# Altium integrated library Altera FLEX 8000.IntLib: 65 symbols (part 5 of 5)
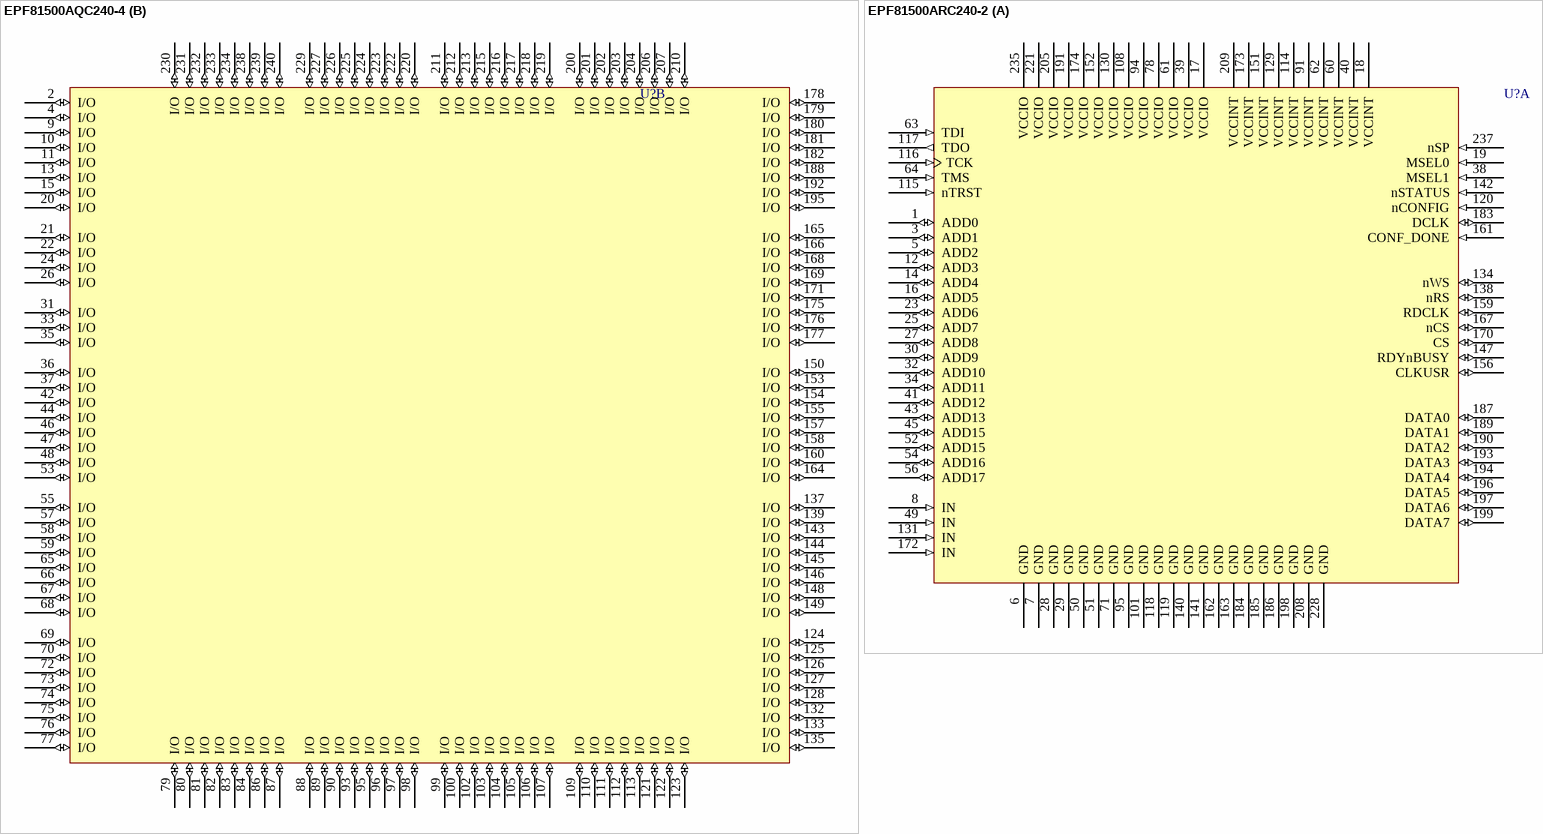
[diagram p43: symbols EPF81500AQC240-4 to EPF81500ARC240-2]

## EPF81500AQC240-4
designator U?
FLEX EPF81500A 5.0V PLD, 181 User IO Pins, 240-Pin PQFP, Speed Grade 4, Commercial Grade; Published: 24-Nov-2000; LatestRevisionDate: 13-Apr-2006; LatestRevisionNote: IPC-7351 Footprint Added.; DatasheetVersion: ver11.1, Jan-2003; PackageVersion: ver14.1, Oct-2005; PackageReference: PQFP240; Publisher: Altium Limited; PackageDescription: 240-Pin Plastic Quad Flat Pack (PQFP240); Code_JEDEC: MS-029-GA; ComponentLink1Description: Manufacturer Link; ComponentLink1URL: http://www.altera.com/products/devices/flex8k/f8k-index.html; ComponentLink2Description: Datasheet; ComponentLink2URL: http://www.altera.com/literature/ds/dsf8k.pdf
footprint PQFP240_N (Shrink QFP, 240-Leads, Body 32x32mm, Pitch 0.5mm, IPC Medium Density)
footprint PQFP240_L (Shrink QFP, 240-Leads, Body 32x32mm, Pitch 0.5mm, IPC High Density)
footprint PQFP240_M (Shrink QFP, 240-Leads, Body 32x32mm, Pitch 0.5mm, IPC Low Density)
3D model EPF81500A-PQFP240 (240-Pin Plastic Quad Flat Pack (PQFP240))
part A pins: 1 ADD0 (io), 3 ADD1 (io), 5 ADD2 (io), 6 GND (power), 7 GND (power), 8 IN (in), 12 ADD3 (io), 14 ADD4 (io), 16 ADD5 (io), 17 VCCIO (power), 18 VCCINT (power), 19 MSEL0 (in), 23 ADD6 (io), 25 ADD7 (io), 27 ADD8 (io), 28 GND (power), 29 GND (power), 30 ADD9 (io), 32 ADD10 (io), 34 ADD11 (io), 38 MSEL1 (in), 39 VCCIO (power), 40 VCCINT (power), 41 ADD12 (io), 43 ADD13 (io), 45 ADD14 (io), 49 IN (in), 50 GND (power), 51 GND (power), 52 ADD15 (io), 54 ADD16 (io), 56 ADD17 (io), 60 VCCINT (power), 61 VCCIO (power), 62 VCCINT (power), 63 TDI (in), 64 TMS (in), 71 GND (power), 78 VCCIO (power), 85 GND (power), 91 VCCINT (power), 92 GND (power), 94 VCCIO (power), 101 GND (power), 108 VCCIO (power), 114 VCCINT (power), 115 TRST (in), 116 TCK (in), 117 TDO (out), 118 GND (power), 119 GND (power), 120 nCONFIG (in), 129 VCCINT (power), 130 VCCIO (power), 131 IN (in), 134 nWS (io), 136 SDOUT (io), 138 nRS (io), 140 GND (power), 141 GND (power), 142 nSTATUS (in), 147 RDYnBUSY (io), 151 VCCINT (power), 152 VCCIO (power), 156 CLKUSR (io), 159 RDCLK (io), 161 CONF_DONE (in), 162 GND (power), 163 GND (power), 167 nCS (io), 170 CS (io), 172 IN (in), 173 VCCINT (power), 174 VCCIO (power), 183 DCLK (in), 184 GND (power), 185 GND (power), 186 GND (power), 187 DATA0 (io), 189 DATA1 (io), 190 DATA2 (io), 191 VCCIO (power), 193 DATA3 (io), 194 DATA4 (io), 196 DATA5 (io), 197 DATA6 (io), 198 GND (power), 199 DATA7 (io), 205 VCCIO (power), 208 GND (power), 209 VCCINT (power), 214 GND (power), 221 VCCIO (power), 228 GND (power), 235 VCCIO (power), 236 VCCINT (power), 237 nSP (in)
part B pins: 2 I/O (io), 4 I/O (io), 9 I/O (io), 10 I/O (io), 11 I/O (io), 13 I/O (io), 15 I/O (io), 20 I/O (io), 21 I/O (io), 22 I/O (io), 24 I/O (io), 26 I/O (io), 31 I/O (io), 33 I/O (io), 35 I/O (io), 36 I/O (io), 37 I/O (io), 42 I/O (io), 44 I/O (io), 46 I/O (io), 47 I/O (io), 48 I/O (io), 53 I/O (io), 55 I/O (io), 57 I/O (io), 58 I/O (io), 59 I/O (io), 65 I/O (io), 66 I/O (io), 67 I/O (io), 68 I/O (io), 69 I/O (io), 70 I/O (io), 72 I/O (io), 73 I/O (io), 74 I/O (io), 75 I/O (io), 76 I/O (io), 77 I/O (io), 79 I/O (io), 80 I/O (io), 81 I/O (io), 82 I/O (io), 83 I/O (io), 84 I/O (io), 86 I/O (io), 87 I/O (io), 88 I/O (io), 89 I/O (io), 90 I/O (io), 93 I/O (io), 95 I/O (io), 96 I/O (io), 97 I/O (io), 98 I/O (io), 99 I/O (io), 100 I/O (io), 102 I/O (io), 103 I/O (io), 104 I/O (io), 105 I/O (io), 106 I/O (io), 107 I/O (io), 109 I/O (io), 110 I/O (io), 111 I/O (io), 112 I/O (io), 113 I/O (io), 121 I/O (io), 122 I/O (io), 123 I/O (io), 124 I/O (io), 125 I/O (io), 126 I/O (io), 127 I/O (io), 128 I/O (io), 132 I/O (io), 133 I/O (io), 135 I/O (io), 137 I/O (io), 139 I/O (io), 143 I/O (io), 144 I/O (io), 145 I/O (io), 146 I/O (io), 148 I/O (io), 149 I/O (io), 150 I/O (io), 153 I/O (io), 154 I/O (io), 155 I/O (io), 157 I/O (io), 158 I/O (io), 160 I/O (io), 164 I/O (io), 165 I/O (io), 166 I/O (io), 168 I/O (io), 169 I/O (io), 171 I/O (io), 175 I/O (io), 176 I/O (io), 177 I/O (io), 178 I/O (io), 179 I/O (io), 180 I/O (io), 181 I/O (io), 182 I/O (io), 188 I/O (io), 192 I/O (io), 195 I/O (io), 200 I/O (io), 201 I/O (io), 202 I/O (io), 203 I/O (io), 204 I/O (io), 206 I/O (io), 207 I/O (io), 210 I/O (io), 211 I/O (io), 212 I/O (io), 213 I/O (io), 215 I/O (io), 216 I/O (io), 217 I/O (io), 218 I/O (io), 219 I/O (io), 220 I/O (io), 222 I/O (io), 223 I/O (io), 224 I/O (io), 225 I/O (io), 226 I/O (io), 227 I/O (io), 229 I/O (io), 230 I/O (io), 231 I/O (io), 232 I/O (io), 233 I/O (io), 234 I/O (io), 238 I/O (io), 239 I/O (io), 240 I/O (io)

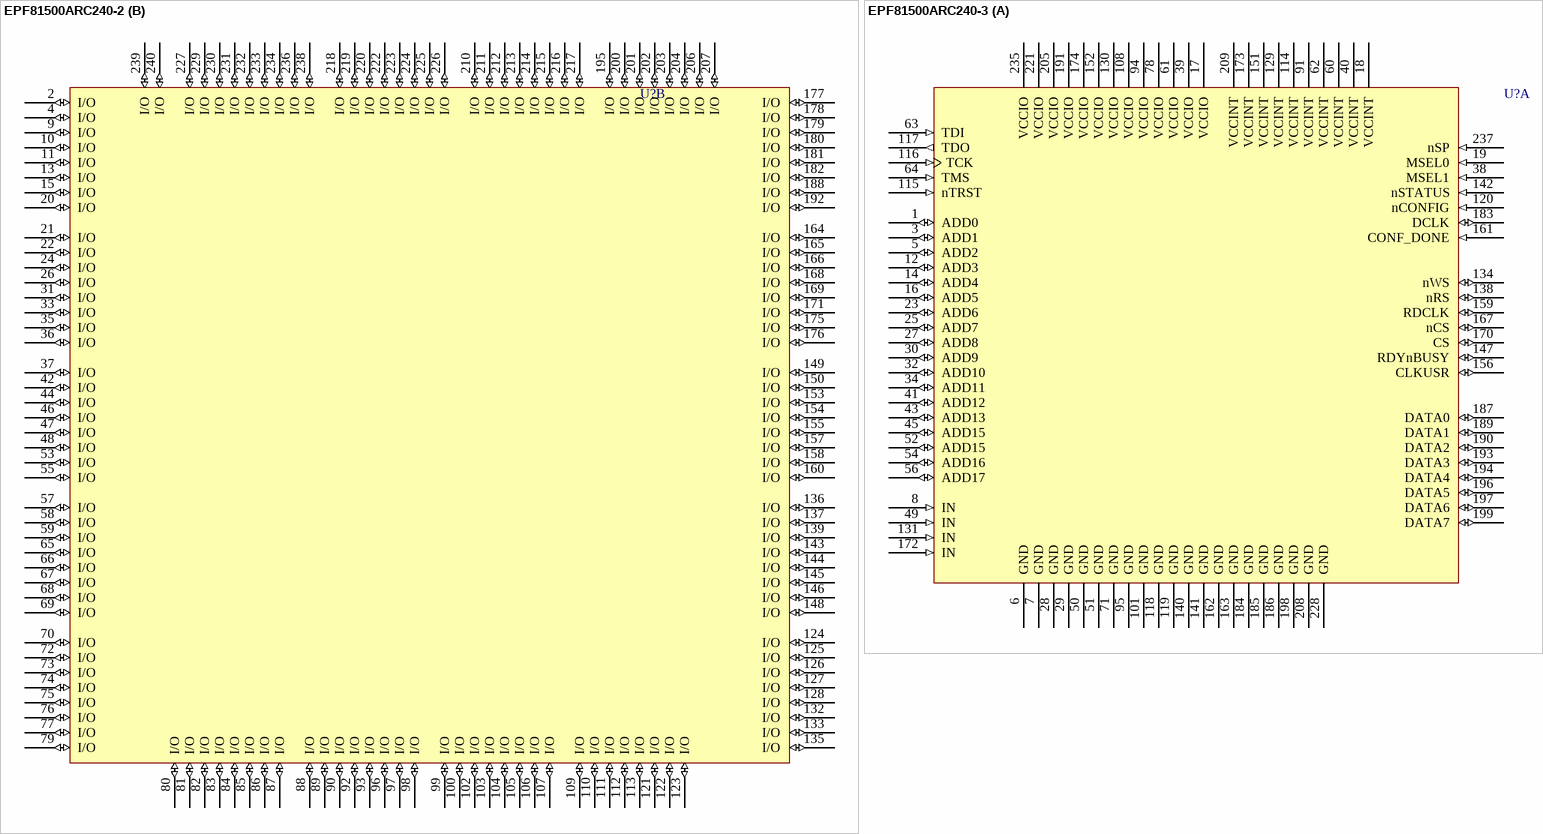
[diagram p31: symbols EPF81500ARC240-2 to EPF81500ARC240-3]

## EPF81500ARC240-2
designator U?
FLEX EPF81500A 5.0V PLD, 181 User IO Pins, 240-Pin RQFP, Speed Grade 2, Commercial Grade; Published: 24-Nov-2000; LatestRevisionDate: 13-Apr-2006; LatestRevisionNote: IPC-7351 Footprint Added.; DatasheetVersion: ver11.1, Jan-2003; PackageVersion: ver14.1, Oct-2005; PackageReference: RQFP240; Publisher: Altium Limited; PackageDescription: 240-Pin Power Quad Flat Pack (RQFP240); Code_JEDEC: MS-029-GA; ComponentLink1Description: Manufacturer Link; ComponentLink1URL: http://www.altera.com/products/devices/flex8k/f8k-index.html
footprint RQFP240_N (Shrink QFP, 240-Leads, Body 32x32mm, Pitch 0.5mm, IPC Medium Density)
footprint RQFP240_L (Shrink QFP, 240-Leads, Body 32x32mm, Pitch 0.5mm, IPC High Density)
footprint RQFP240_M (Shrink QFP, 240-Leads, Body 32x32mm, Pitch 0.5mm, IPC Low Density)
3D model EPF81500A-RQFP240 (240-Pin Power Quad Flat Pack (RQFP240))
part A pins: 1 ADD0 (io), 3 ADD1 (io), 5 ADD2 (io), 6 GND (power), 7 GND (power), 8 IN (in), 12 ADD3 (io), 14 ADD4 (io), 16 ADD5 (io), 17 VCCIO (power), 18 VCCINT (power), 19 MSEL0 (in), 23 ADD6 (io), 25 ADD7 (io), 27 ADD8 (io), 28 GND (power), 29 GND (power), 30 ADD9 (io), 32 ADD10 (io), 34 ADD11 (io), 38 MSEL1 (in), 39 VCCIO (power), 40 VCCINT (power), 41 ADD12 (io), 43 ADD13 (io), 45 ADD15 (io), 49 IN (in), 50 GND (power), 51 GND (power), 52 ADD15 (io), 54 ADD16 (io), 56 ADD17 (io), 60 VCCINT (power), 61 VCCIO (power), 62 VCCINT (power), 63 TDI (in), 64 TMS (in), 71 GND (power), 78 VCCIO (power), 91 VCCINT (power), 94 VCCIO (power), 95 GND (power), 101 GND (power), 108 VCCIO (power), 114 VCCINT (power), 115 nTRST (in), 116 TCK (in), 117 TDO (out), 118 GND (power), 119 GND (power), 120 nCONFIG (in), 129 VCCINT (power), 130 VCCIO (power), 131 IN (in), 134 nWS (io), 138 nRS (io), 140 GND (power), 141 GND (power), 142 nSTATUS (in), 147 RDYnBUSY (io), 151 VCCINT (power), 152 VCCIO (power), 156 CLKUSR (io), 159 RDCLK (io), 161 CONF_DONE (in), 162 GND (power), 163 GND (power), 167 nCS (io), 170 CS (io), 172 IN (in), 173 VCCINT (power), 174 VCCIO (power), 183 DCLK (io), 184 GND (power), 185 GND (power), 186 GND (power), 187 DATA0 (io), 189 DATA1 (io), 190 DATA2 (io), 191 VCCIO (power), 193 DATA3 (io), 194 DATA4 (io), 196 DATA5 (io), 197 DATA6 (io), 198 GND (power), 199 DATA7 (io), 205 VCCIO (power), 208 GND (power), 209 VCCINT (power), 221 VCCIO (power), 228 GND (power), 235 VCCIO (power), 237 nSP (in)
part B pins: 2 I/O (io), 4 I/O (io), 9 I/O (io), 10 I/O (io), 11 I/O (io), 13 I/O (io), 15 I/O (io), 20 I/O (io), 21 I/O (io), 22 I/O (io), 24 I/O (io), 26 I/O (io), 31 I/O (io), 33 I/O (io), 35 I/O (io), 36 I/O (io), 37 I/O (io), 42 I/O (io), 44 I/O (io), 46 I/O (io), 47 I/O (io), 48 I/O (io), 53 I/O (io), 55 I/O (io), 57 I/O (io), 58 I/O (io), 59 I/O (io), 65 I/O (io), 66 I/O (io), 67 I/O (io), 68 I/O (io), 69 I/O (io), 70 I/O (io), 72 I/O (io), 73 I/O (io), 74 I/O (io), 75 I/O (io), 76 I/O (io), 77 I/O (io), 79 I/O (io), 80 I/O (io), 81 I/O (io), 82 I/O (io), 83 I/O (io), 84 I/O (io), 85 I/O (io), 86 I/O (io), 87 I/O (io), 88 I/O (io), 89 I/O (io), 90 I/O (io), 92 I/O (io), 93 I/O (io), 96 I/O (io), 97 I/O (io), 98 I/O (io), 99 I/O (io), 100 I/O (io), 102 I/O (io), 103 I/O (io), 104 I/O (io), 105 I/O (io), 106 I/O (io), 107 I/O (io), 109 I/O (io), 110 I/O (io), 111 I/O (io), 112 I/O (io), 113 I/O (io), 121 I/O (io), 122 I/O (io), 123 I/O (io), 124 I/O (io), 125 I/O (io), 126 I/O (io), 127 I/O (io), 128 I/O (io), 132 I/O (io), 133 I/O (io), 135 I/O (io), 136 I/O (io), 137 I/O (io), 139 I/O (io), 143 I/O (io), 144 I/O (io), 145 I/O (io), 146 I/O (io), 148 I/O (io), 149 I/O (io), 150 I/O (io), 153 I/O (io), 154 I/O (io), 155 I/O (io), 157 I/O (io), 158 I/O (io), 160 I/O (io), 164 I/O (io), 165 I/O (io), 166 I/O (io), 168 I/O (io), 169 I/O (io), 171 I/O (io), 175 I/O (io), 176 I/O (io), 177 I/O (io), 178 I/O (io), 179 I/O (io), 180 I/O (io), 181 I/O (io), 182 I/O (io), 188 I/O (io), 192 I/O (io), 195 I/O (io), 200 I/O (io), 201 I/O (io), 202 I/O (io), 203 I/O (io), 204 I/O (io), 206 I/O (io), 207 I/O (io), 210 I/O (io), 211 I/O (io), 212 I/O (io), 213 I/O (io), 214 I/O (io), 215 I/O (io), 216 I/O (io), 217 I/O (io), 218 I/O (io), 219 I/O (io), 220 I/O (io), 222 I/O (io), 223 I/O (io), 224 I/O (io), 225 I/O (io), 226 I/O (io), 227 I/O (io), 229 I/O (io), 230 I/O (io), 231 I/O (io), 232 I/O (io), 233 I/O (io), 234 I/O (io), 236 I/O (io), 238 I/O (io), 239 I/O (io), 240 I/O (io)

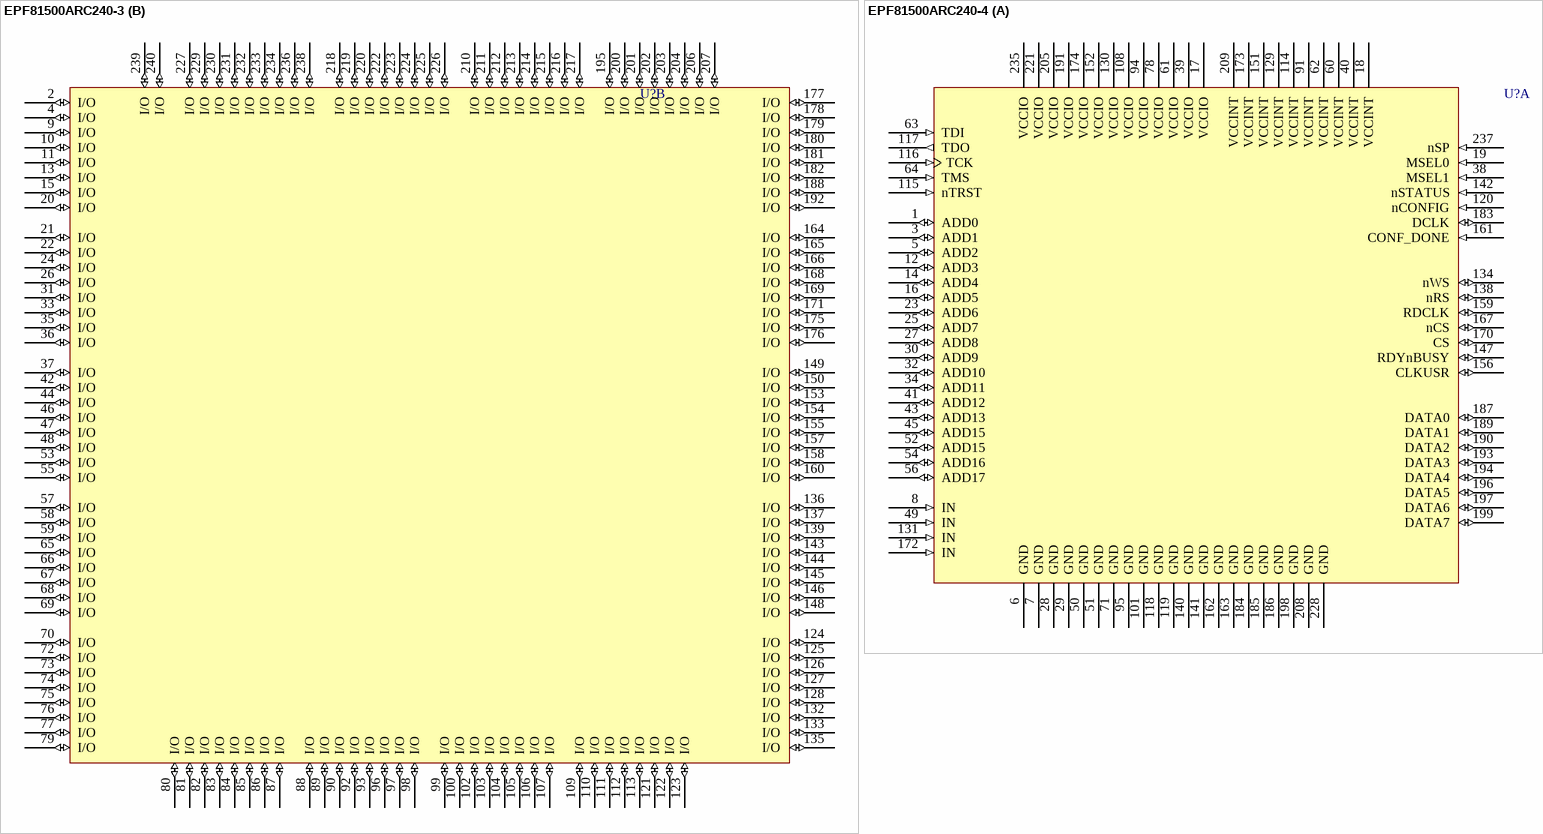
[diagram p32: symbols EPF81500ARC240-3 to EPF81500ARC240-4]

## EPF81500ARC240-3
designator U?
FLEX EPF81500A 5.0V PLD, 181 User IO Pins, 240-Pin RQFP, Speed Grade 3, Commercial Grade; Published: 24-Nov-2000; LatestRevisionDate: 13-Apr-2006; LatestRevisionNote: IPC-7351 Footprint Added.; DatasheetVersion: ver11.1, Jan-2003; PackageVersion: ver14.1, Oct-2005; PackageReference: RQFP240; Publisher: Altium Limited; PackageDescription: 240-Pin Power Quad Flat Pack (RQFP240); Code_JEDEC: MS-029-GA; ComponentLink1Description: Manufacturer Link; ComponentLink1URL: http://www.altera.com/products/devices/flex8k/f8k-index.html
footprint RQFP240_N (Shrink QFP, 240-Leads, Body 32x32mm, Pitch 0.5mm, IPC Medium Density)
footprint RQFP240_L (Shrink QFP, 240-Leads, Body 32x32mm, Pitch 0.5mm, IPC High Density)
footprint RQFP240_M (Shrink QFP, 240-Leads, Body 32x32mm, Pitch 0.5mm, IPC Low Density)
3D model EPF81500A-RQFP240 (240-Pin Power Quad Flat Pack (RQFP240))
part A pins: 1 ADD0 (io), 3 ADD1 (io), 5 ADD2 (io), 6 GND (power), 7 GND (power), 8 IN (in), 12 ADD3 (io), 14 ADD4 (io), 16 ADD5 (io), 17 VCCIO (power), 18 VCCINT (power), 19 MSEL0 (in), 23 ADD6 (io), 25 ADD7 (io), 27 ADD8 (io), 28 GND (power), 29 GND (power), 30 ADD9 (io), 32 ADD10 (io), 34 ADD11 (io), 38 MSEL1 (in), 39 VCCIO (power), 40 VCCINT (power), 41 ADD12 (io), 43 ADD13 (io), 45 ADD15 (io), 49 IN (in), 50 GND (power), 51 GND (power), 52 ADD15 (io), 54 ADD16 (io), 56 ADD17 (io), 60 VCCINT (power), 61 VCCIO (power), 62 VCCINT (power), 63 TDI (in), 64 TMS (in), 71 GND (power), 78 VCCIO (power), 91 VCCINT (power), 94 VCCIO (power), 95 GND (power), 101 GND (power), 108 VCCIO (power), 114 VCCINT (power), 115 nTRST (in), 116 TCK (in), 117 TDO (out), 118 GND (power), 119 GND (power), 120 nCONFIG (in), 129 VCCINT (power), 130 VCCIO (power), 131 IN (in), 134 nWS (io), 138 nRS (io), 140 GND (power), 141 GND (power), 142 nSTATUS (in), 147 RDYnBUSY (io), 151 VCCINT (power), 152 VCCIO (power), 156 CLKUSR (io), 159 RDCLK (io), 161 CONF_DONE (in), 162 GND (power), 163 GND (power), 167 nCS (io), 170 CS (io), 172 IN (in), 173 VCCINT (power), 174 VCCIO (power), 183 DCLK (io), 184 GND (power), 185 GND (power), 186 GND (power), 187 DATA0 (io), 189 DATA1 (io), 190 DATA2 (io), 191 VCCIO (power), 193 DATA3 (io), 194 DATA4 (io), 196 DATA5 (io), 197 DATA6 (io), 198 GND (power), 199 DATA7 (io), 205 VCCIO (power), 208 GND (power), 209 VCCINT (power), 221 VCCIO (power), 228 GND (power), 235 VCCIO (power), 237 nSP (in)
part B pins: 2 I/O (io), 4 I/O (io), 9 I/O (io), 10 I/O (io), 11 I/O (io), 13 I/O (io), 15 I/O (io), 20 I/O (io), 21 I/O (io), 22 I/O (io), 24 I/O (io), 26 I/O (io), 31 I/O (io), 33 I/O (io), 35 I/O (io), 36 I/O (io), 37 I/O (io), 42 I/O (io), 44 I/O (io), 46 I/O (io), 47 I/O (io), 48 I/O (io), 53 I/O (io), 55 I/O (io), 57 I/O (io), 58 I/O (io), 59 I/O (io), 65 I/O (io), 66 I/O (io), 67 I/O (io), 68 I/O (io), 69 I/O (io), 70 I/O (io), 72 I/O (io), 73 I/O (io), 74 I/O (io), 75 I/O (io), 76 I/O (io), 77 I/O (io), 79 I/O (io), 80 I/O (io), 81 I/O (io), 82 I/O (io), 83 I/O (io), 84 I/O (io), 85 I/O (io), 86 I/O (io), 87 I/O (io), 88 I/O (io), 89 I/O (io), 90 I/O (io), 92 I/O (io), 93 I/O (io), 96 I/O (io), 97 I/O (io), 98 I/O (io), 99 I/O (io), 100 I/O (io), 102 I/O (io), 103 I/O (io), 104 I/O (io), 105 I/O (io), 106 I/O (io), 107 I/O (io), 109 I/O (io), 110 I/O (io), 111 I/O (io), 112 I/O (io), 113 I/O (io), 121 I/O (io), 122 I/O (io), 123 I/O (io), 124 I/O (io), 125 I/O (io), 126 I/O (io), 127 I/O (io), 128 I/O (io), 132 I/O (io), 133 I/O (io), 135 I/O (io), 136 I/O (io), 137 I/O (io), 139 I/O (io), 143 I/O (io), 144 I/O (io), 145 I/O (io), 146 I/O (io), 148 I/O (io), 149 I/O (io), 150 I/O (io), 153 I/O (io), 154 I/O (io), 155 I/O (io), 157 I/O (io), 158 I/O (io), 160 I/O (io), 164 I/O (io), 165 I/O (io), 166 I/O (io), 168 I/O (io), 169 I/O (io), 171 I/O (io), 175 I/O (io), 176 I/O (io), 177 I/O (io), 178 I/O (io), 179 I/O (io), 180 I/O (io), 181 I/O (io), 182 I/O (io), 188 I/O (io), 192 I/O (io), 195 I/O (io), 200 I/O (io), 201 I/O (io), 202 I/O (io), 203 I/O (io), 204 I/O (io), 206 I/O (io), 207 I/O (io), 210 I/O (io), 211 I/O (io), 212 I/O (io), 213 I/O (io), 214 I/O (io), 215 I/O (io), 216 I/O (io), 217 I/O (io), 218 I/O (io), 219 I/O (io), 220 I/O (io), 222 I/O (io), 223 I/O (io), 224 I/O (io), 225 I/O (io), 226 I/O (io), 227 I/O (io), 229 I/O (io), 230 I/O (io), 231 I/O (io), 232 I/O (io), 233 I/O (io), 234 I/O (io), 236 I/O (io), 238 I/O (io), 239 I/O (io), 240 I/O (io)

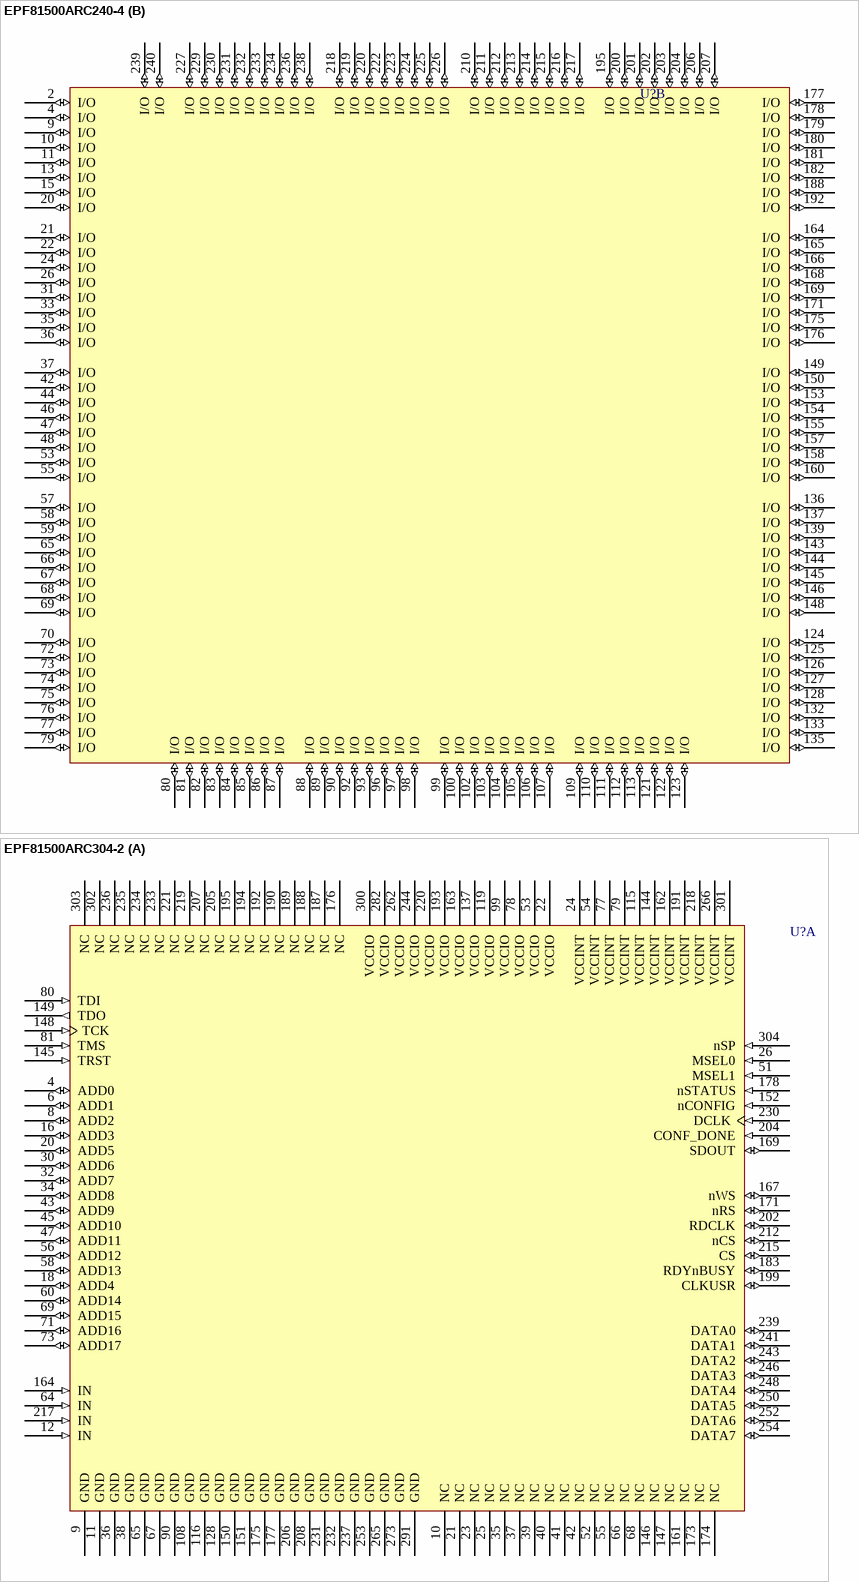
[diagram p33: symbols EPF81500ARC240-4 to EPF81500ARC304-2]

## EPF81500ARC240-4
designator U?
FLEX EPF81500A 5.0V PLD, 181 User IO Pins, 240-Pin RQFP, Speed Grade 4, Commercial Grade; Published: 24-Nov-2000; LatestRevisionDate: 13-Apr-2006; LatestRevisionNote: IPC-7351 Footprint Added.; DatasheetVersion: ver11.1, Jan-2003; PackageVersion: ver14.1, Oct-2005; PackageReference: RQFP240; Publisher: Altium Limited; PackageDescription: 240-Pin Power Quad Flat Pack (RQFP240); Code_JEDEC: MS-029-GA; ComponentLink1Description: Manufacturer Link; ComponentLink1URL: http://www.altera.com/products/devices/flex8k/f8k-index.html
footprint RQFP240_N (Shrink QFP, 240-Leads, Body 32x32mm, Pitch 0.5mm, IPC Medium Density)
footprint RQFP240_L (Shrink QFP, 240-Leads, Body 32x32mm, Pitch 0.5mm, IPC High Density)
footprint RQFP240_M (Shrink QFP, 240-Leads, Body 32x32mm, Pitch 0.5mm, IPC Low Density)
3D model EPF81500A-RQFP240 (240-Pin Power Quad Flat Pack (RQFP240))
part A pins: 1 ADD0 (io), 3 ADD1 (io), 5 ADD2 (io), 6 GND (power), 7 GND (power), 8 IN (in), 12 ADD3 (io), 14 ADD4 (io), 16 ADD5 (io), 17 VCCIO (power), 18 VCCINT (power), 19 MSEL0 (in), 23 ADD6 (io), 25 ADD7 (io), 27 ADD8 (io), 28 GND (power), 29 GND (power), 30 ADD9 (io), 32 ADD10 (io), 34 ADD11 (io), 38 MSEL1 (in), 39 VCCIO (power), 40 VCCINT (power), 41 ADD12 (io), 43 ADD13 (io), 45 ADD15 (io), 49 IN (in), 50 GND (power), 51 GND (power), 52 ADD15 (io), 54 ADD16 (io), 56 ADD17 (io), 60 VCCINT (power), 61 VCCIO (power), 62 VCCINT (power), 63 TDI (in), 64 TMS (in), 71 GND (power), 78 VCCIO (power), 91 VCCINT (power), 94 VCCIO (power), 95 GND (power), 101 GND (power), 108 VCCIO (power), 114 VCCINT (power), 115 nTRST (in), 116 TCK (in), 117 TDO (out), 118 GND (power), 119 GND (power), 120 nCONFIG (in), 129 VCCINT (power), 130 VCCIO (power), 131 IN (in), 134 nWS (io), 138 nRS (io), 140 GND (power), 141 GND (power), 142 nSTATUS (in), 147 RDYnBUSY (io), 151 VCCINT (power), 152 VCCIO (power), 156 CLKUSR (io), 159 RDCLK (io), 161 CONF_DONE (in), 162 GND (power), 163 GND (power), 167 nCS (io), 170 CS (io), 172 IN (in), 173 VCCINT (power), 174 VCCIO (power), 183 DCLK (io), 184 GND (power), 185 GND (power), 186 GND (power), 187 DATA0 (io), 189 DATA1 (io), 190 DATA2 (io), 191 VCCIO (power), 193 DATA3 (io), 194 DATA4 (io), 196 DATA5 (io), 197 DATA6 (io), 198 GND (power), 199 DATA7 (io), 205 VCCIO (power), 208 GND (power), 209 VCCINT (power), 221 VCCIO (power), 228 GND (power), 235 VCCIO (power), 237 nSP (in)
part B pins: 2 I/O (io), 4 I/O (io), 9 I/O (io), 10 I/O (io), 11 I/O (io), 13 I/O (io), 15 I/O (io), 20 I/O (io), 21 I/O (io), 22 I/O (io), 24 I/O (io), 26 I/O (io), 31 I/O (io), 33 I/O (io), 35 I/O (io), 36 I/O (io), 37 I/O (io), 42 I/O (io), 44 I/O (io), 46 I/O (io), 47 I/O (io), 48 I/O (io), 53 I/O (io), 55 I/O (io), 57 I/O (io), 58 I/O (io), 59 I/O (io), 65 I/O (io), 66 I/O (io), 67 I/O (io), 68 I/O (io), 69 I/O (io), 70 I/O (io), 72 I/O (io), 73 I/O (io), 74 I/O (io), 75 I/O (io), 76 I/O (io), 77 I/O (io), 79 I/O (io), 80 I/O (io), 81 I/O (io), 82 I/O (io), 83 I/O (io), 84 I/O (io), 85 I/O (io), 86 I/O (io), 87 I/O (io), 88 I/O (io), 89 I/O (io), 90 I/O (io), 92 I/O (io), 93 I/O (io), 96 I/O (io), 97 I/O (io), 98 I/O (io), 99 I/O (io), 100 I/O (io), 102 I/O (io), 103 I/O (io), 104 I/O (io), 105 I/O (io), 106 I/O (io), 107 I/O (io), 109 I/O (io), 110 I/O (io), 111 I/O (io), 112 I/O (io), 113 I/O (io), 121 I/O (io), 122 I/O (io), 123 I/O (io), 124 I/O (io), 125 I/O (io), 126 I/O (io), 127 I/O (io), 128 I/O (io), 132 I/O (io), 133 I/O (io), 135 I/O (io), 136 I/O (io), 137 I/O (io), 139 I/O (io), 143 I/O (io), 144 I/O (io), 145 I/O (io), 146 I/O (io), 148 I/O (io), 149 I/O (io), 150 I/O (io), 153 I/O (io), 154 I/O (io), 155 I/O (io), 157 I/O (io), 158 I/O (io), 160 I/O (io), 164 I/O (io), 165 I/O (io), 166 I/O (io), 168 I/O (io), 169 I/O (io), 171 I/O (io), 175 I/O (io), 176 I/O (io), 177 I/O (io), 178 I/O (io), 179 I/O (io), 180 I/O (io), 181 I/O (io), 182 I/O (io), 188 I/O (io), 192 I/O (io), 195 I/O (io), 200 I/O (io), 201 I/O (io), 202 I/O (io), 203 I/O (io), 204 I/O (io), 206 I/O (io), 207 I/O (io), 210 I/O (io), 211 I/O (io), 212 I/O (io), 213 I/O (io), 214 I/O (io), 215 I/O (io), 216 I/O (io), 217 I/O (io), 218 I/O (io), 219 I/O (io), 220 I/O (io), 222 I/O (io), 223 I/O (io), 224 I/O (io), 225 I/O (io), 226 I/O (io), 227 I/O (io), 229 I/O (io), 230 I/O (io), 231 I/O (io), 232 I/O (io), 233 I/O (io), 234 I/O (io), 236 I/O (io), 238 I/O (io), 239 I/O (io), 240 I/O (io)

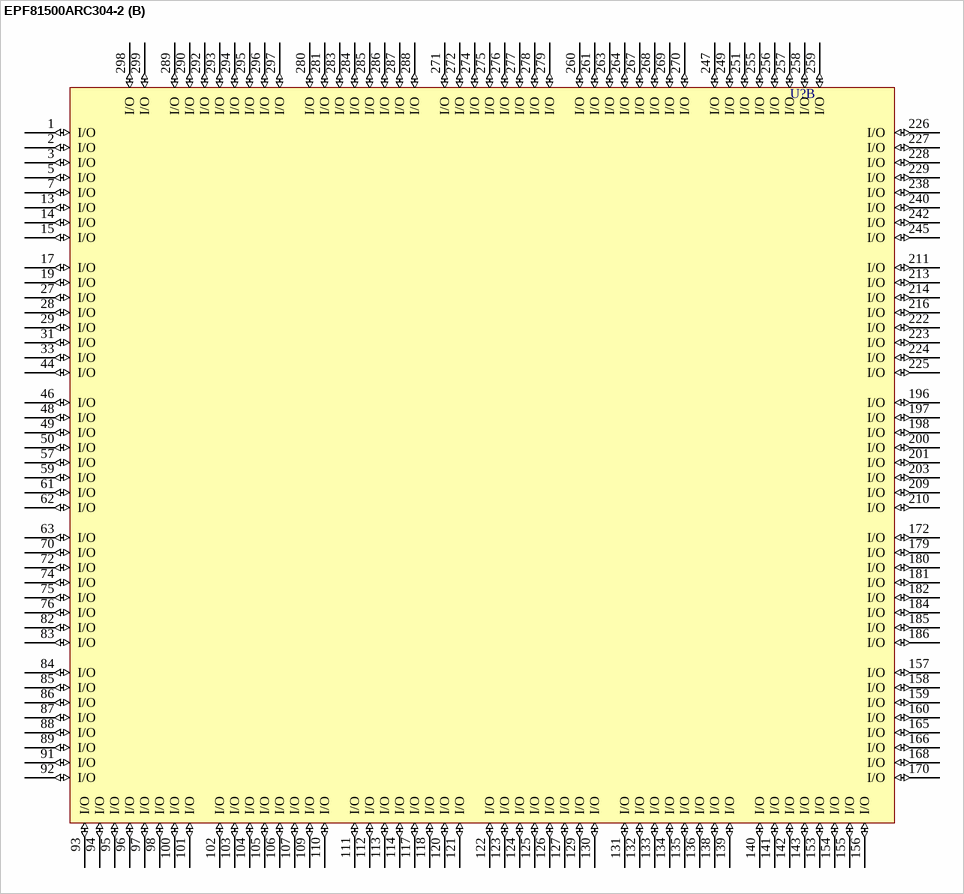
[diagram p34: symbol EPF81500ARC304-2]

## EPF81500ARC304-2
designator U?
FLEX EPF81500A 5.0V PLD, 208 User IO Pins, 304-Pin RQFP, Speed Grade 2, Commercial Grade; Published: 24-Nov-2000; LatestRevisionDate: 13-Apr-2006; LatestRevisionNote: IPC-7351 Footprint Added.; DatasheetVersion: ver11.1, Jan-2003; PackageVersion: ver14.1, Oct-2005; PackageReference: RQFP304; Publisher: Altium Limited; PackageDescription: 304-Pin Power Quad Flat Pack (RQFP304); Code_JEDEC: MS-029-JA; ComponentLink1Description: Manufacturer Link; ComponentLink1URL: http://www.altera.com/products/devices/flex8k/f8k-index.html; ComponentLink2Description: Datasheet; ComponentLink2URL: http://www.altera.com/literature/ds/dsf8k.pdf
footprint RQFP304_N (Shrink QFP, 304-Leads, Body 40x40mm, Pitch 0.5mm, IPC Medium Density)
footprint RQFP304_L (Shrink QFP, 304-Leads, Body 40x40mm, Pitch 0.5mm, IPC High Density)
footprint RQFP304_M (Shrink QFP, 304-Leads, Body 40x40mm, Pitch 0.5mm, IPC Low Density)
3D model EPF81500A-RQFP304 (304-Pin Power Quad Flat Pack (RQFP304))
part A pins: 4 ADD0 (io), 6 ADD1 (io), 8 ADD2 (io), 9 GND (power), 10 NC, 11 GND (power), 12 IN (in), 16 ADD3 (io), 18 ADD4 (io), 20 ADD5 (io), 21 NC, 22 VCCIO (power), 23 NC, 24 VCCINT (power), 25 NC, 26 MSEL0 (in), 30 ADD6 (io), 32 ADD7 (io), 34 ADD8 (io), 35 NC, 36 GND (power), 37 NC, 38 GND (power), 39 NC, 40 NC, 41 NC, 42 NC, 43 ADD9 (io), 45 ADD10 (io), 47 ADD11 (io), 51 MSEL1 (in), 52 NC, 53 VCCIO (power), 54 VCCINT (power), 55 NC, 56 ADD12 (io), 58 ADD13 (io), 60 ADD14 (io), 64 IN (in), 65 GND (power), 66 NC, 67 GND (power), 68 NC, 69 ADD15 (io), 71 ADD16 (io), 73 ADD17 (io), 77 VCCINT (power), 78 VCCIO (power), 79 VCCINT (power), 80 TDI (in), 81 TMS (in), 90 GND (power), 99 VCCIO (power), 108 GND (power), 115 VCCINT (power), 116 GND (power), 119 VCCIO (power), 128 GND (power), 137 VCCIO (power), 144 VCCINT (power), 145 TRST (in), 146 NC, 147 NC, 148 TCK (in), 149 TDO (out), 150 GND (power), 151 GND (power), 152 nCONFIG (in), 161 NC, 162 VCCINT (power), 163 VCCIO (power), 164 IN (in), 167 nWS (io), 169 SDOUT (io), 171 nRS (io), 173 NC, 174 NC, 175 GND (power), 176 NC, 177 GND (power), 178 nSTATUS (in), 183 RDYnBUSY (io), 187 NC, 188 NC, 189 NC, 190 NC, 191 VCCINT (power), 192 NC, 193 VCCIO (power), 194 NC, 195 NC, 199 CLKUSR (io), 202 RDCLK (io), 204 CONF_DONE (in), 205 NC, 206 GND (power), 207 NC, 208 GND (power), 212 nCS (io), 215 CS (io), 217 IN (in), 218 VCCINT (power), 219 NC, 220 VCCIO (power), 221 NC, 230 DCLK (in), 231 GND (power), 232 GND (power), 233 NC, 234 NC, 235 NC, 236 NC, 237 GND (power), 239 DATA0 (io), 241 DATA1 (io), 243 DATA2 (io), 244 VCCIO (power), 246 DATA3 (io), 248 DATA4 (io), 250 DATA5 (io), 252 DATA6 (io), 253 GND (power), 254 DATA7 (io), 262 VCCIO (power), 265 GND (power), 266 VCCINT (power), 273 GND (power), 282 VCCIO (power), 291 GND (power), 300 VCCIO (power), 301 VCCINT (power), 302 NC, 303 NC, 304 nSP (in)
part B pins: 1 I/O (io), 2 I/O (io), 3 I/O (io), 5 I/O (io), 7 I/O (io), 13 I/O (io), 14 I/O (io), 15 I/O (io), 17 I/O (io), 19 I/O (io), 27 I/O (io), 28 I/O (io), 29 I/O (io), 31 I/O (io), 33 I/O (io), 44 I/O (io), 46 I/O (io), 48 I/O (io), 49 I/O (io), 50 I/O (io), 57 I/O (io), 59 I/O (io), 61 I/O (io), 62 I/O (io), 63 I/O (io), 70 I/O (io), 72 I/O (io), 74 I/O (io), 75 I/O (io), 76 I/O (io), 82 I/O (io), 83 I/O (io), 84 I/O (io), 85 I/O (io), 86 I/O (io), 87 I/O (io), 88 I/O (io), 89 I/O (io), 91 I/O (io), 92 I/O (io), 93 I/O (io), 94 I/O (io), 95 I/O (io), 96 I/O (io), 97 I/O (io), 98 I/O (io), 100 I/O (io), 101 I/O (io), 102 I/O (io), 103 I/O (io), 104 I/O (io), 105 I/O (io), 106 I/O (io), 107 I/O (io), 109 I/O (io), 110 I/O (io), 111 I/O (io), 112 I/O (io), 113 I/O (io), 114 I/O (io), 117 I/O (io), 118 I/O (io), 120 I/O (io), 121 I/O (io), 122 I/O (io), 123 I/O (io), 124 I/O (io), 125 I/O (io), 126 I/O (io), 127 I/O (io), 129 I/O (io), 130 I/O (io), 131 I/O (io), 132 I/O (io), 133 I/O (io), 134 I/O (io), 135 I/O (io), 136 I/O (io), 138 I/O (io), 139 I/O (io), 140 I/O (io), 141 I/O (io), 142 I/O (io), 143 I/O (io), 153 I/O (io), 154 I/O (io), 155 I/O (io), 156 I/O (io), 157 I/O (io), 158 I/O (io), 159 I/O (io), 160 I/O (io), 165 I/O (io), 166 I/O (io), 168 I/O (io), 170 I/O (io), 172 I/O (io), 179 I/O (io), 180 I/O (io), 181 I/O (io), 182 I/O (io), 184 I/O (io), 185 I/O (io), 186 I/O (io), 196 I/O (io), 197 I/O (io), 198 I/O (io), 200 I/O (io), 201 I/O (io), 203 I/O (io), 209 I/O (io), 210 I/O (io), 211 I/O (io), 213 I/O (io), 214 I/O (io), 216 I/O (io), 222 I/O (io), 223 I/O (io), 224 I/O (io), 225 I/O (io), 226 I/O (io), 227 I/O (io), 228 I/O (io), 229 I/O (io), 238 I/O (io), 240 I/O (io), 242 I/O (io), 245 I/O (io), 247 I/O (io), 249 I/O (io), 251 I/O (io), 255 I/O (io), 256 I/O (io), 257 I/O (io), 258 I/O (io), 259 I/O (io), 260 I/O (io), 261 I/O (io), 263 I/O (io), 264 I/O (io), 267 I/O (io), 268 I/O (io), 269 I/O (io), 270 I/O (io), 271 I/O (io), 272 I/O (io), 274 I/O (io), 275 I/O (io), 276 I/O (io), 277 I/O (io), 278 I/O (io), 279 I/O (io), 280 I/O (io), 281 I/O (io), 283 I/O (io), 284 I/O (io), 285 I/O (io), 286 I/O (io), 287 I/O (io), 288 I/O (io), 289 I/O (io), 290 I/O (io), 292 I/O (io), 293 I/O (io), 294 I/O (io), 295 I/O (io), 296 I/O (io), 297 I/O (io), 298 I/O (io), 299 I/O (io)

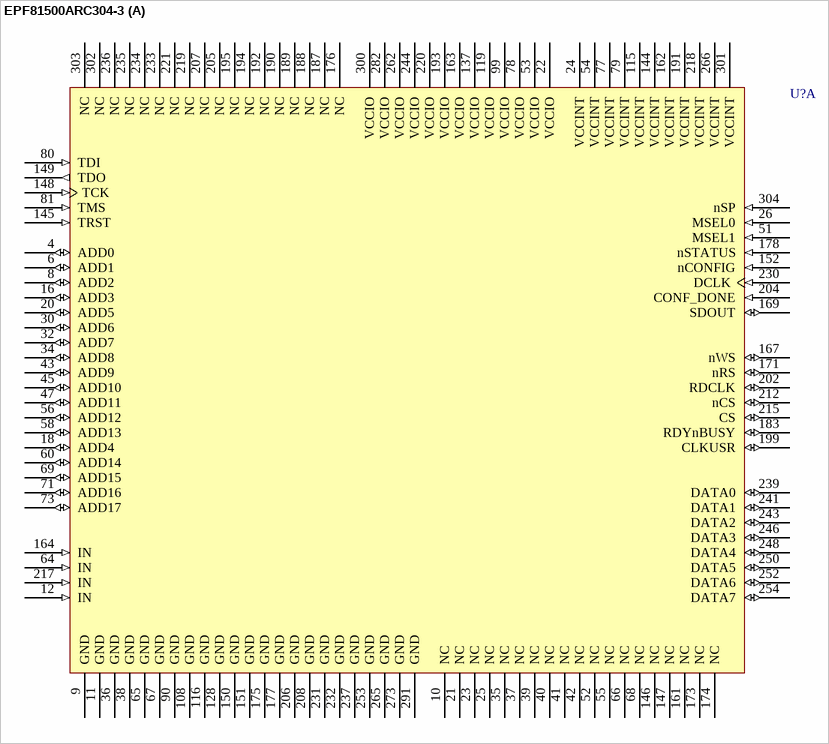
[diagram p35: symbol EPF81500ARC304-3]

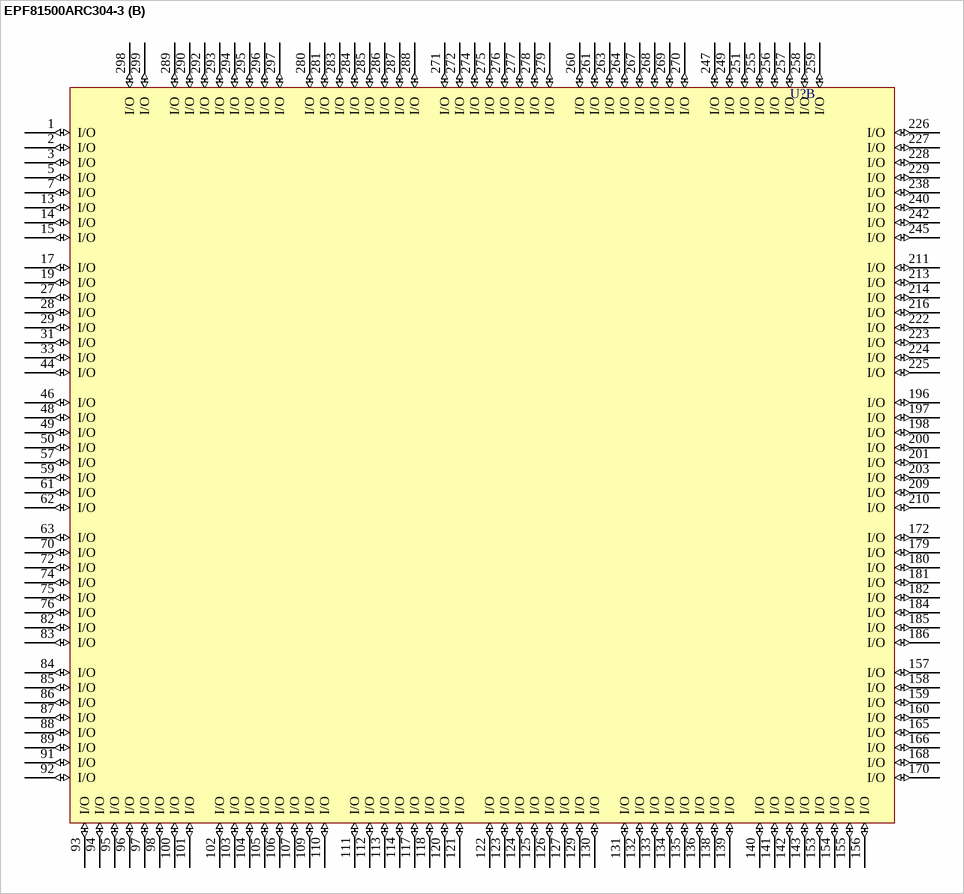
[diagram p36: symbol EPF81500ARC304-3]

## EPF81500ARC304-3
designator U?
FLEX EPF81500A 5.0V PLD, 208 User IO Pins, 304-Pin RQFP, Speed Grade 3, Commercial Grade; Published: 24-Nov-2000; LatestRevisionDate: 13-Apr-2006; LatestRevisionNote: IPC-7351 Footprint Added.; DatasheetVersion: ver11.1, Jan-2003; PackageVersion: ver14.1, Oct-2005; PackageReference: RQFP304; Publisher: Altium Limited; PackageDescription: 304-Pin Power Quad Flat Pack (RQFP304); Code_JEDEC: MS-029-JA; ComponentLink1Description: Manufacturer Link; ComponentLink1URL: http://www.altera.com/products/devices/flex8k/f8k-index.html; ComponentLink2Description: Datasheet; ComponentLink2URL: http://www.altera.com/literature/ds/dsf8k.pdf
footprint RQFP304_N (Shrink QFP, 304-Leads, Body 40x40mm, Pitch 0.5mm, IPC Medium Density)
footprint RQFP304_L (Shrink QFP, 304-Leads, Body 40x40mm, Pitch 0.5mm, IPC High Density)
footprint RQFP304_M (Shrink QFP, 304-Leads, Body 40x40mm, Pitch 0.5mm, IPC Low Density)
3D model EPF81500A-RQFP304 (304-Pin Power Quad Flat Pack (RQFP304))
part A pins: 4 ADD0 (io), 6 ADD1 (io), 8 ADD2 (io), 9 GND (power), 10 NC, 11 GND (power), 12 IN (in), 16 ADD3 (io), 18 ADD4 (io), 20 ADD5 (io), 21 NC, 22 VCCIO (power), 23 NC, 24 VCCINT (power), 25 NC, 26 MSEL0 (in), 30 ADD6 (io), 32 ADD7 (io), 34 ADD8 (io), 35 NC, 36 GND (power), 37 NC, 38 GND (power), 39 NC, 40 NC, 41 NC, 42 NC, 43 ADD9 (io), 45 ADD10 (io), 47 ADD11 (io), 51 MSEL1 (in), 52 NC, 53 VCCIO (power), 54 VCCINT (power), 55 NC, 56 ADD12 (io), 58 ADD13 (io), 60 ADD14 (io), 64 IN (in), 65 GND (power), 66 NC, 67 GND (power), 68 NC, 69 ADD15 (io), 71 ADD16 (io), 73 ADD17 (io), 77 VCCINT (power), 78 VCCIO (power), 79 VCCINT (power), 80 TDI (in), 81 TMS (in), 90 GND (power), 99 VCCIO (power), 108 GND (power), 115 VCCINT (power), 116 GND (power), 119 VCCIO (power), 128 GND (power), 137 VCCIO (power), 144 VCCINT (power), 145 TRST (in), 146 NC, 147 NC, 148 TCK (in), 149 TDO (out), 150 GND (power), 151 GND (power), 152 nCONFIG (in), 161 NC, 162 VCCINT (power), 163 VCCIO (power), 164 IN (in), 167 nWS (io), 169 SDOUT (io), 171 nRS (io), 173 NC, 174 NC, 175 GND (power), 176 NC, 177 GND (power), 178 nSTATUS (in), 183 RDYnBUSY (io), 187 NC, 188 NC, 189 NC, 190 NC, 191 VCCINT (power), 192 NC, 193 VCCIO (power), 194 NC, 195 NC, 199 CLKUSR (io), 202 RDCLK (io), 204 CONF_DONE (in), 205 NC, 206 GND (power), 207 NC, 208 GND (power), 212 nCS (io), 215 CS (io), 217 IN (in), 218 VCCINT (power), 219 NC, 220 VCCIO (power), 221 NC, 230 DCLK (in), 231 GND (power), 232 GND (power), 233 NC, 234 NC, 235 NC, 236 NC, 237 GND (power), 239 DATA0 (io), 241 DATA1 (io), 243 DATA2 (io), 244 VCCIO (power), 246 DATA3 (io), 248 DATA4 (io), 250 DATA5 (io), 252 DATA6 (io), 253 GND (power), 254 DATA7 (io), 262 VCCIO (power), 265 GND (power), 266 VCCINT (power), 273 GND (power), 282 VCCIO (power), 291 GND (power), 300 VCCIO (power), 301 VCCINT (power), 302 NC, 303 NC, 304 nSP (in)
part B pins: 1 I/O (io), 2 I/O (io), 3 I/O (io), 5 I/O (io), 7 I/O (io), 13 I/O (io), 14 I/O (io), 15 I/O (io), 17 I/O (io), 19 I/O (io), 27 I/O (io), 28 I/O (io), 29 I/O (io), 31 I/O (io), 33 I/O (io), 44 I/O (io), 46 I/O (io), 48 I/O (io), 49 I/O (io), 50 I/O (io), 57 I/O (io), 59 I/O (io), 61 I/O (io), 62 I/O (io), 63 I/O (io), 70 I/O (io), 72 I/O (io), 74 I/O (io), 75 I/O (io), 76 I/O (io), 82 I/O (io), 83 I/O (io), 84 I/O (io), 85 I/O (io), 86 I/O (io), 87 I/O (io), 88 I/O (io), 89 I/O (io), 91 I/O (io), 92 I/O (io), 93 I/O (io), 94 I/O (io), 95 I/O (io), 96 I/O (io), 97 I/O (io), 98 I/O (io), 100 I/O (io), 101 I/O (io), 102 I/O (io), 103 I/O (io), 104 I/O (io), 105 I/O (io), 106 I/O (io), 107 I/O (io), 109 I/O (io), 110 I/O (io), 111 I/O (io), 112 I/O (io), 113 I/O (io), 114 I/O (io), 117 I/O (io), 118 I/O (io), 120 I/O (io), 121 I/O (io), 122 I/O (io), 123 I/O (io), 124 I/O (io), 125 I/O (io), 126 I/O (io), 127 I/O (io), 129 I/O (io), 130 I/O (io), 131 I/O (io), 132 I/O (io), 133 I/O (io), 134 I/O (io), 135 I/O (io), 136 I/O (io), 138 I/O (io), 139 I/O (io), 140 I/O (io), 141 I/O (io), 142 I/O (io), 143 I/O (io), 153 I/O (io), 154 I/O (io), 155 I/O (io), 156 I/O (io), 157 I/O (io), 158 I/O (io), 159 I/O (io), 160 I/O (io), 165 I/O (io), 166 I/O (io), 168 I/O (io), 170 I/O (io), 172 I/O (io), 179 I/O (io), 180 I/O (io), 181 I/O (io), 182 I/O (io), 184 I/O (io), 185 I/O (io), 186 I/O (io), 196 I/O (io), 197 I/O (io), 198 I/O (io), 200 I/O (io), 201 I/O (io), 203 I/O (io), 209 I/O (io), 210 I/O (io), 211 I/O (io), 213 I/O (io), 214 I/O (io), 216 I/O (io), 222 I/O (io), 223 I/O (io), 224 I/O (io), 225 I/O (io), 226 I/O (io), 227 I/O (io), 228 I/O (io), 229 I/O (io), 238 I/O (io), 240 I/O (io), 242 I/O (io), 245 I/O (io), 247 I/O (io), 249 I/O (io), 251 I/O (io), 255 I/O (io), 256 I/O (io), 257 I/O (io), 258 I/O (io), 259 I/O (io), 260 I/O (io), 261 I/O (io), 263 I/O (io), 264 I/O (io), 267 I/O (io), 268 I/O (io), 269 I/O (io), 270 I/O (io), 271 I/O (io), 272 I/O (io), 274 I/O (io), 275 I/O (io), 276 I/O (io), 277 I/O (io), 278 I/O (io), 279 I/O (io), 280 I/O (io), 281 I/O (io), 283 I/O (io), 284 I/O (io), 285 I/O (io), 286 I/O (io), 287 I/O (io), 288 I/O (io), 289 I/O (io), 290 I/O (io), 292 I/O (io), 293 I/O (io), 294 I/O (io), 295 I/O (io), 296 I/O (io), 297 I/O (io), 298 I/O (io), 299 I/O (io)

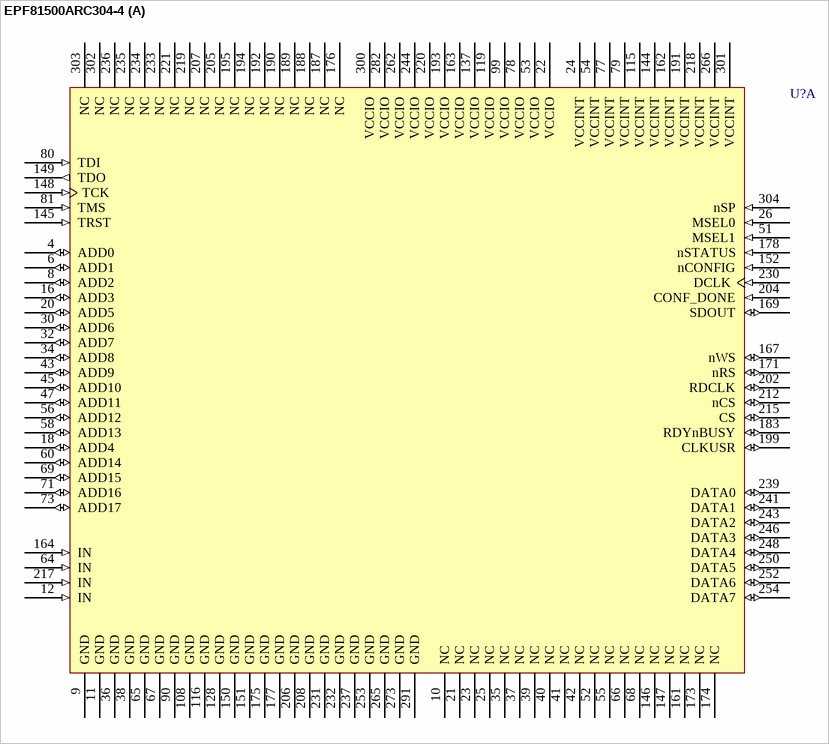
[diagram p37: symbol EPF81500ARC304-4]

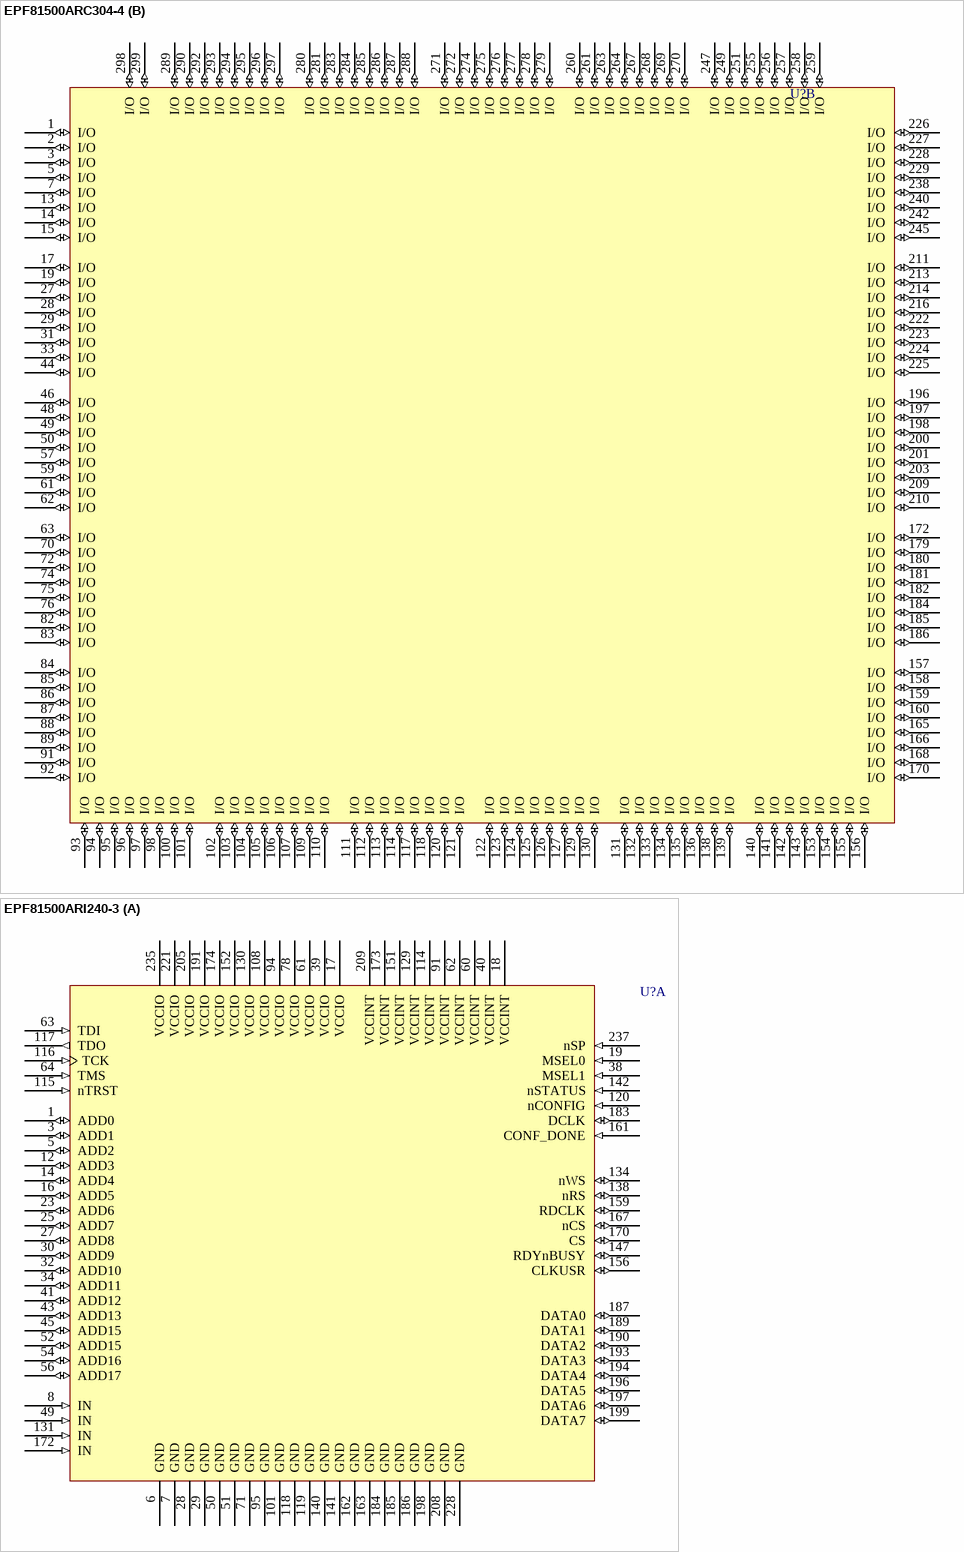
[diagram p38: symbols EPF81500ARC304-4 to EPF81500ARI240-3]

## EPF81500ARC304-4
designator U?
FLEX EPF81500A 5.0V PLD, 208 User IO Pins, 304-Pin RQFP, Speed Grade 4, Commercial Grade; Published: 24-Nov-2000; LatestRevisionDate: 13-Apr-2006; LatestRevisionNote: IPC-7351 Footprint Added.; DatasheetVersion: ver11.1, Jan-2003; PackageVersion: ver14.1, Oct-2005; PackageReference: RQFP304; Publisher: Altium Limited; PackageDescription: 304-Pin Power Quad Flat Pack (RQFP304); Code_JEDEC: MS-029-JA; ComponentLink1Description: Manufacturer Link; ComponentLink1URL: http://www.altera.com/products/devices/flex8k/f8k-index.html; ComponentLink2Description: Datasheet; ComponentLink2URL: http://www.altera.com/literature/ds/dsf8k.pdf
footprint RQFP304_N (Shrink QFP, 304-Leads, Body 40x40mm, Pitch 0.5mm, IPC Medium Density)
footprint RQFP304_L (Shrink QFP, 304-Leads, Body 40x40mm, Pitch 0.5mm, IPC High Density)
footprint RQFP304_M (Shrink QFP, 304-Leads, Body 40x40mm, Pitch 0.5mm, IPC Low Density)
3D model EPF81500A-RQFP304 (304-Pin Power Quad Flat Pack (RQFP304))
part A pins: 4 ADD0 (io), 6 ADD1 (io), 8 ADD2 (io), 9 GND (power), 10 NC, 11 GND (power), 12 IN (in), 16 ADD3 (io), 18 ADD4 (io), 20 ADD5 (io), 21 NC, 22 VCCIO (power), 23 NC, 24 VCCINT (power), 25 NC, 26 MSEL0 (in), 30 ADD6 (io), 32 ADD7 (io), 34 ADD8 (io), 35 NC, 36 GND (power), 37 NC, 38 GND (power), 39 NC, 40 NC, 41 NC, 42 NC, 43 ADD9 (io), 45 ADD10 (io), 47 ADD11 (io), 51 MSEL1 (in), 52 NC, 53 VCCIO (power), 54 VCCINT (power), 55 NC, 56 ADD12 (io), 58 ADD13 (io), 60 ADD14 (io), 64 IN (in), 65 GND (power), 66 NC, 67 GND (power), 68 NC, 69 ADD15 (io), 71 ADD16 (io), 73 ADD17 (io), 77 VCCINT (power), 78 VCCIO (power), 79 VCCINT (power), 80 TDI (in), 81 TMS (in), 90 GND (power), 99 VCCIO (power), 108 GND (power), 115 VCCINT (power), 116 GND (power), 119 VCCIO (power), 128 GND (power), 137 VCCIO (power), 144 VCCINT (power), 145 TRST (in), 146 NC, 147 NC, 148 TCK (in), 149 TDO (out), 150 GND (power), 151 GND (power), 152 nCONFIG (in), 161 NC, 162 VCCINT (power), 163 VCCIO (power), 164 IN (in), 167 nWS (io), 169 SDOUT (io), 171 nRS (io), 173 NC, 174 NC, 175 GND (power), 176 NC, 177 GND (power), 178 nSTATUS (in), 183 RDYnBUSY (io), 187 NC, 188 NC, 189 NC, 190 NC, 191 VCCINT (power), 192 NC, 193 VCCIO (power), 194 NC, 195 NC, 199 CLKUSR (io), 202 RDCLK (io), 204 CONF_DONE (in), 205 NC, 206 GND (power), 207 NC, 208 GND (power), 212 nCS (io), 215 CS (io), 217 IN (in), 218 VCCINT (power), 219 NC, 220 VCCIO (power), 221 NC, 230 DCLK (in), 231 GND (power), 232 GND (power), 233 NC, 234 NC, 235 NC, 236 NC, 237 GND (power), 239 DATA0 (io), 241 DATA1 (io), 243 DATA2 (io), 244 VCCIO (power), 246 DATA3 (io), 248 DATA4 (io), 250 DATA5 (io), 252 DATA6 (io), 253 GND (power), 254 DATA7 (io), 262 VCCIO (power), 265 GND (power), 266 VCCINT (power), 273 GND (power), 282 VCCIO (power), 291 GND (power), 300 VCCIO (power), 301 VCCINT (power), 302 NC, 303 NC, 304 nSP (in)
part B pins: 1 I/O (io), 2 I/O (io), 3 I/O (io), 5 I/O (io), 7 I/O (io), 13 I/O (io), 14 I/O (io), 15 I/O (io), 17 I/O (io), 19 I/O (io), 27 I/O (io), 28 I/O (io), 29 I/O (io), 31 I/O (io), 33 I/O (io), 44 I/O (io), 46 I/O (io), 48 I/O (io), 49 I/O (io), 50 I/O (io), 57 I/O (io), 59 I/O (io), 61 I/O (io), 62 I/O (io), 63 I/O (io), 70 I/O (io), 72 I/O (io), 74 I/O (io), 75 I/O (io), 76 I/O (io), 82 I/O (io), 83 I/O (io), 84 I/O (io), 85 I/O (io), 86 I/O (io), 87 I/O (io), 88 I/O (io), 89 I/O (io), 91 I/O (io), 92 I/O (io), 93 I/O (io), 94 I/O (io), 95 I/O (io), 96 I/O (io), 97 I/O (io), 98 I/O (io), 100 I/O (io), 101 I/O (io), 102 I/O (io), 103 I/O (io), 104 I/O (io), 105 I/O (io), 106 I/O (io), 107 I/O (io), 109 I/O (io), 110 I/O (io), 111 I/O (io), 112 I/O (io), 113 I/O (io), 114 I/O (io), 117 I/O (io), 118 I/O (io), 120 I/O (io), 121 I/O (io), 122 I/O (io), 123 I/O (io), 124 I/O (io), 125 I/O (io), 126 I/O (io), 127 I/O (io), 129 I/O (io), 130 I/O (io), 131 I/O (io), 132 I/O (io), 133 I/O (io), 134 I/O (io), 135 I/O (io), 136 I/O (io), 138 I/O (io), 139 I/O (io), 140 I/O (io), 141 I/O (io), 142 I/O (io), 143 I/O (io), 153 I/O (io), 154 I/O (io), 155 I/O (io), 156 I/O (io), 157 I/O (io), 158 I/O (io), 159 I/O (io), 160 I/O (io), 165 I/O (io), 166 I/O (io), 168 I/O (io), 170 I/O (io), 172 I/O (io), 179 I/O (io), 180 I/O (io), 181 I/O (io), 182 I/O (io), 184 I/O (io), 185 I/O (io), 186 I/O (io), 196 I/O (io), 197 I/O (io), 198 I/O (io), 200 I/O (io), 201 I/O (io), 203 I/O (io), 209 I/O (io), 210 I/O (io), 211 I/O (io), 213 I/O (io), 214 I/O (io), 216 I/O (io), 222 I/O (io), 223 I/O (io), 224 I/O (io), 225 I/O (io), 226 I/O (io), 227 I/O (io), 228 I/O (io), 229 I/O (io), 238 I/O (io), 240 I/O (io), 242 I/O (io), 245 I/O (io), 247 I/O (io), 249 I/O (io), 251 I/O (io), 255 I/O (io), 256 I/O (io), 257 I/O (io), 258 I/O (io), 259 I/O (io), 260 I/O (io), 261 I/O (io), 263 I/O (io), 264 I/O (io), 267 I/O (io), 268 I/O (io), 269 I/O (io), 270 I/O (io), 271 I/O (io), 272 I/O (io), 274 I/O (io), 275 I/O (io), 276 I/O (io), 277 I/O (io), 278 I/O (io), 279 I/O (io), 280 I/O (io), 281 I/O (io), 283 I/O (io), 284 I/O (io), 285 I/O (io), 286 I/O (io), 287 I/O (io), 288 I/O (io), 289 I/O (io), 290 I/O (io), 292 I/O (io), 293 I/O (io), 294 I/O (io), 295 I/O (io), 296 I/O (io), 297 I/O (io), 298 I/O (io), 299 I/O (io)

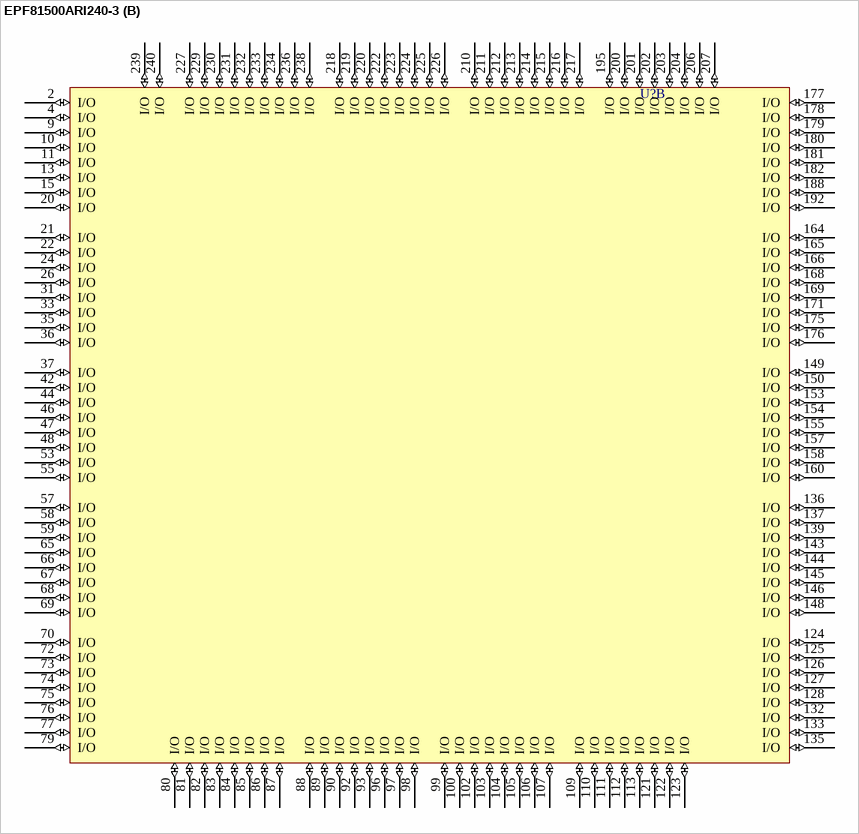
[diagram p39: symbol EPF81500ARI240-3]

## EPF81500ARI240-3
designator U?
FLEX EPF81500A 5.0V PLD, 181 User IO Pins, 240-Pin RQFP, Speed Grade 3, Industrial Grade; Published: 24-Nov-2000; LatestRevisionDate: 13-Apr-2006; LatestRevisionNote: IPC-7351 Footprint Added.; DatasheetVersion: ver11.1, Jan-2003; PackageVersion: ver14.1, Oct-2005; PackageReference: RQFP240; Publisher: Altium Limited; PackageDescription: 240-Pin Power Quad Flat Pack (RQFP240); Code_JEDEC: MS-029-GA; ComponentLink1Description: Manufacturer Link; ComponentLink1URL: http://www.altera.com/products/devices/flex8k/f8k-index.html
footprint RQFP240_N (Shrink QFP, 240-Leads, Body 32x32mm, Pitch 0.5mm, IPC Medium Density)
footprint RQFP240_L (Shrink QFP, 240-Leads, Body 32x32mm, Pitch 0.5mm, IPC High Density)
footprint RQFP240_M (Shrink QFP, 240-Leads, Body 32x32mm, Pitch 0.5mm, IPC Low Density)
3D model EPF81500A-RQFP240 (240-Pin Power Quad Flat Pack (RQFP240))
part A pins: 1 ADD0 (io), 3 ADD1 (io), 5 ADD2 (io), 6 GND (power), 7 GND (power), 8 IN (in), 12 ADD3 (io), 14 ADD4 (io), 16 ADD5 (io), 17 VCCIO (power), 18 VCCINT (power), 19 MSEL0 (in), 23 ADD6 (io), 25 ADD7 (io), 27 ADD8 (io), 28 GND (power), 29 GND (power), 30 ADD9 (io), 32 ADD10 (io), 34 ADD11 (io), 38 MSEL1 (in), 39 VCCIO (power), 40 VCCINT (power), 41 ADD12 (io), 43 ADD13 (io), 45 ADD15 (io), 49 IN (in), 50 GND (power), 51 GND (power), 52 ADD15 (io), 54 ADD16 (io), 56 ADD17 (io), 60 VCCINT (power), 61 VCCIO (power), 62 VCCINT (power), 63 TDI (in), 64 TMS (in), 71 GND (power), 78 VCCIO (power), 91 VCCINT (power), 94 VCCIO (power), 95 GND (power), 101 GND (power), 108 VCCIO (power), 114 VCCINT (power), 115 nTRST (in), 116 TCK (in), 117 TDO (out), 118 GND (power), 119 GND (power), 120 nCONFIG (in), 129 VCCINT (power), 130 VCCIO (power), 131 IN (in), 134 nWS (io), 138 nRS (io), 140 GND (power), 141 GND (power), 142 nSTATUS (in), 147 RDYnBUSY (io), 151 VCCINT (power), 152 VCCIO (power), 156 CLKUSR (io), 159 RDCLK (io), 161 CONF_DONE (in), 162 GND (power), 163 GND (power), 167 nCS (io), 170 CS (io), 172 IN (in), 173 VCCINT (power), 174 VCCIO (power), 183 DCLK (io), 184 GND (power), 185 GND (power), 186 GND (power), 187 DATA0 (io), 189 DATA1 (io), 190 DATA2 (io), 191 VCCIO (power), 193 DATA3 (io), 194 DATA4 (io), 196 DATA5 (io), 197 DATA6 (io), 198 GND (power), 199 DATA7 (io), 205 VCCIO (power), 208 GND (power), 209 VCCINT (power), 221 VCCIO (power), 228 GND (power), 235 VCCIO (power), 237 nSP (in)
part B pins: 2 I/O (io), 4 I/O (io), 9 I/O (io), 10 I/O (io), 11 I/O (io), 13 I/O (io), 15 I/O (io), 20 I/O (io), 21 I/O (io), 22 I/O (io), 24 I/O (io), 26 I/O (io), 31 I/O (io), 33 I/O (io), 35 I/O (io), 36 I/O (io), 37 I/O (io), 42 I/O (io), 44 I/O (io), 46 I/O (io), 47 I/O (io), 48 I/O (io), 53 I/O (io), 55 I/O (io), 57 I/O (io), 58 I/O (io), 59 I/O (io), 65 I/O (io), 66 I/O (io), 67 I/O (io), 68 I/O (io), 69 I/O (io), 70 I/O (io), 72 I/O (io), 73 I/O (io), 74 I/O (io), 75 I/O (io), 76 I/O (io), 77 I/O (io), 79 I/O (io), 80 I/O (io), 81 I/O (io), 82 I/O (io), 83 I/O (io), 84 I/O (io), 85 I/O (io), 86 I/O (io), 87 I/O (io), 88 I/O (io), 89 I/O (io), 90 I/O (io), 92 I/O (io), 93 I/O (io), 96 I/O (io), 97 I/O (io), 98 I/O (io), 99 I/O (io), 100 I/O (io), 102 I/O (io), 103 I/O (io), 104 I/O (io), 105 I/O (io), 106 I/O (io), 107 I/O (io), 109 I/O (io), 110 I/O (io), 111 I/O (io), 112 I/O (io), 113 I/O (io), 121 I/O (io), 122 I/O (io), 123 I/O (io), 124 I/O (io), 125 I/O (io), 126 I/O (io), 127 I/O (io), 128 I/O (io), 132 I/O (io), 133 I/O (io), 135 I/O (io), 136 I/O (io), 137 I/O (io), 139 I/O (io), 143 I/O (io), 144 I/O (io), 145 I/O (io), 146 I/O (io), 148 I/O (io), 149 I/O (io), 150 I/O (io), 153 I/O (io), 154 I/O (io), 155 I/O (io), 157 I/O (io), 158 I/O (io), 160 I/O (io), 164 I/O (io), 165 I/O (io), 166 I/O (io), 168 I/O (io), 169 I/O (io), 171 I/O (io), 175 I/O (io), 176 I/O (io), 177 I/O (io), 178 I/O (io), 179 I/O (io), 180 I/O (io), 181 I/O (io), 182 I/O (io), 188 I/O (io), 192 I/O (io), 195 I/O (io), 200 I/O (io), 201 I/O (io), 202 I/O (io), 203 I/O (io), 204 I/O (io), 206 I/O (io), 207 I/O (io), 210 I/O (io), 211 I/O (io), 212 I/O (io), 213 I/O (io), 214 I/O (io), 215 I/O (io), 216 I/O (io), 217 I/O (io), 218 I/O (io), 219 I/O (io), 220 I/O (io), 222 I/O (io), 223 I/O (io), 224 I/O (io), 225 I/O (io), 226 I/O (io), 227 I/O (io), 229 I/O (io), 230 I/O (io), 231 I/O (io), 232 I/O (io), 233 I/O (io), 234 I/O (io), 236 I/O (io), 238 I/O (io), 239 I/O (io), 240 I/O (io)